# Altium footprint library Vishay Sprague Footprints.PcbLib: 143 footprints (part 9 of 9)
Each footprint in its own frame and in the unit in brackets; x right, y up, seen from the top. Pads: shape width x height; smd on the part's side, far side on the other; paste and mask are expansions set on the pad; w line width, h text height; cw(c..) or ccw(c..) is an arc to the next point about the centre after c.
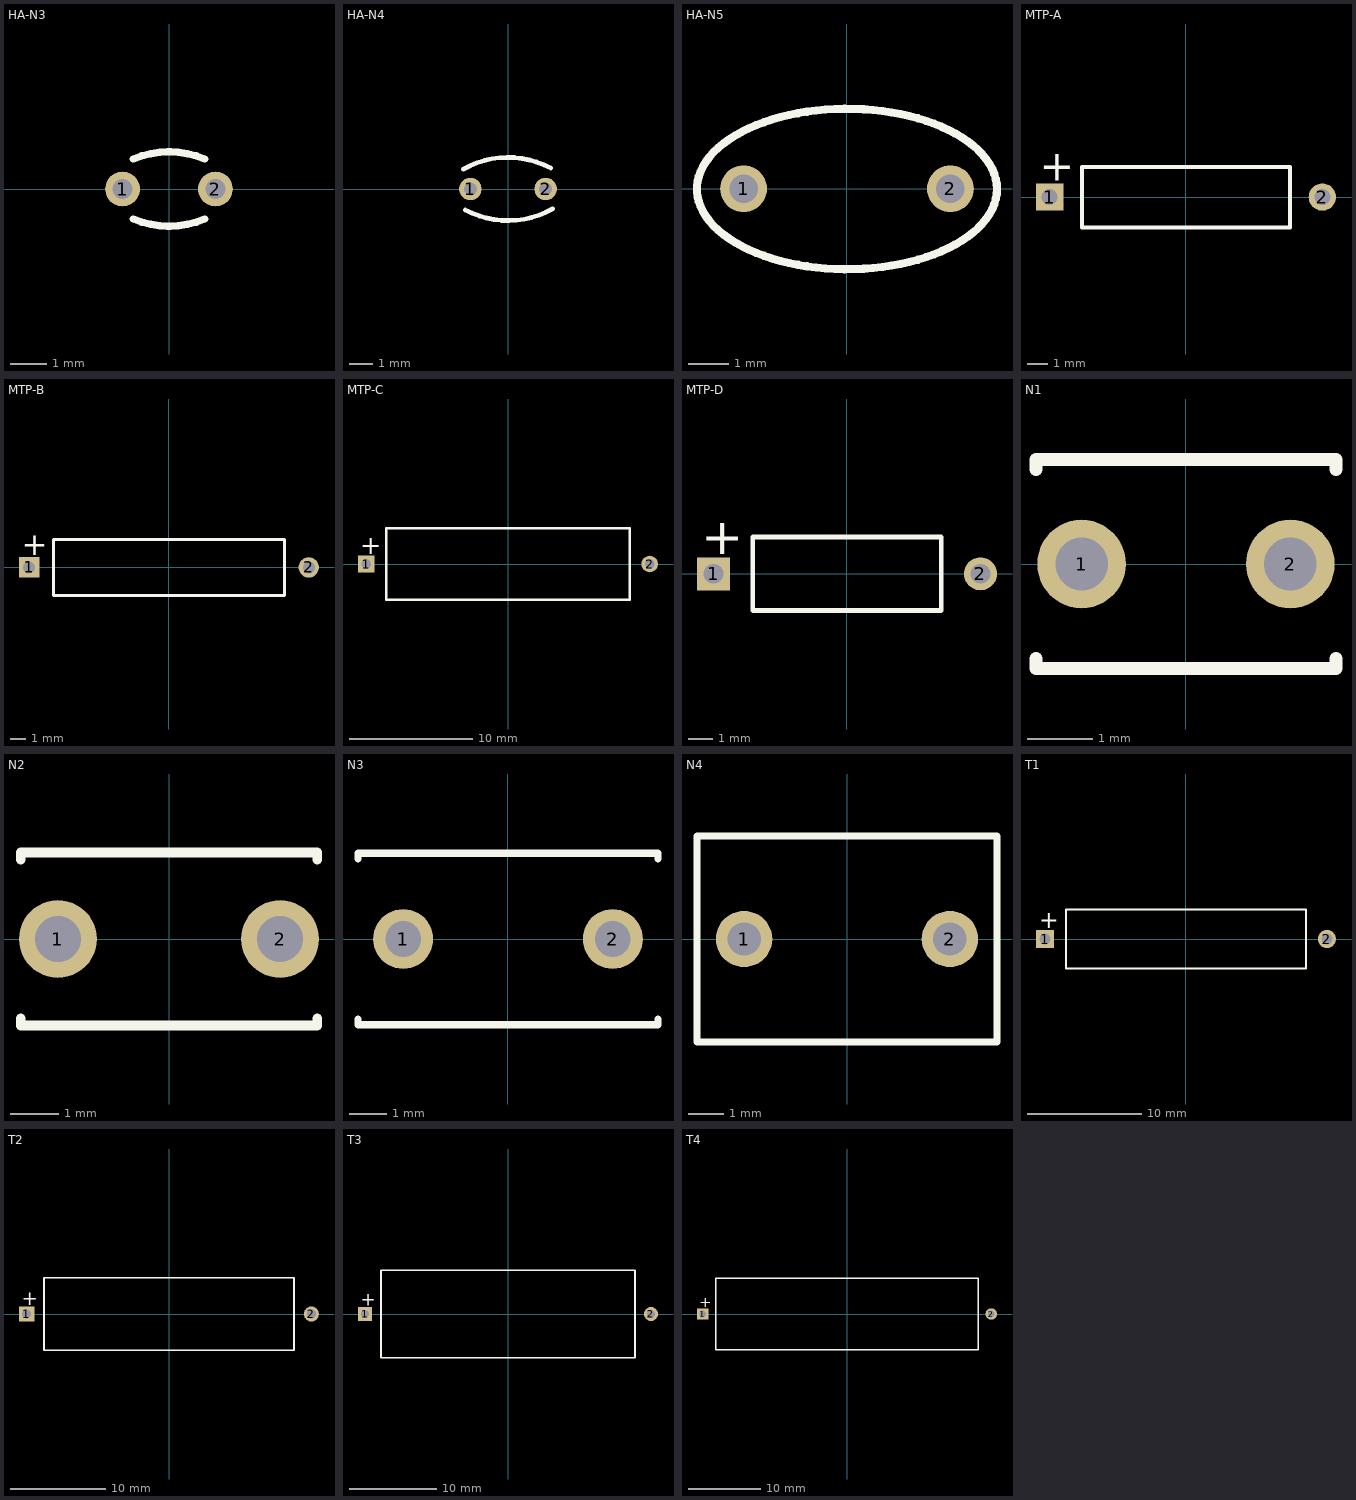
[diagram p8: the footprints below, top view; thin cyan lines are the x and y axes]

## HA-N3 [mm] "Capacitor, Radial, Tantalum, Non-Polarised; Body 3.56 x 2.03 x 5.08 mm (WxTxH max); Pin Spacing 2.54 mm (typ)"
height 5.08
pads (2):
  round 0.95 hole 0.55: 1(-1.27,0) 2(1.27,0)
Top Overlay:
  lines w0.2: -0.979,-0.82 ccw(c0,1.543) 0.979,-0.82 ; -0.979,0.82 cw(c0,-1.543) 0.979,0.82 ; -0.053,-1.015 0.041,-1.015 ; -0.041,1.015 0.053,1.015

## HA-N4 [mm] "Capacitor, Radial, Tantalum, Non-Polarised; Body 4.83 x 2.67 x 5.97 mm (WxTxH max); Pin Spacing 3.18 mm (typ)"
height 5.97
pads (2):
  round 0.95 hole 0.55: 1(-1.59,0) 2(1.59,0)
Top Overlay:
  lines w0.2: -1.888,0.838 cw(c0,-2.5) 1.8,0.886 ; -1.8,-0.886 ccw(c0,2.5) 1.888,-0.838 ; -0.02,-1.335 0.02,-1.335 ; -0.02,1.335 0.02,1.335

## HA-N5 [mm] "Capacitor, Radial, Tantalum, Non-Polarised; Body 7.37 x 3.94 x 6.86 mm (WxTxH max); Pin Spacing 5.08 mm (typ)"
height 6.86
pads (2):
  round 1.15 hole 0.7: 1(-2.54,0) 2(2.54,0)
Top Overlay:
  lines w0.2: -3.684,-0.068 -3.669,-0.193 -3.639,-0.317 -3.595,-0.44 -3.536,-0.561 -3.463,-0.68 -3.377,-0.796 -3.276,-0.909 -3.162,-1.018 -3.036,-1.123 -2.897,-1.224 -2.747,-1.319 -2.586,-1.41 -2.414,-1.495 -2.232,-1.574 -2.042,-1.646 -1.843,-1.712 -1.637,-1.771 -1.424,-1.823 -1.206,-1.868 -0.983,-1.905 -0.755,-1.934 -0.525,-1.956 -0.293,-1.97 -0.059,-1.976 0.175,-1.974 0.408,-1.964 0.639,-1.946 0.868,-1.92 1.094,-1.887 1.314,-1.846 1.53,-1.798 1.74,-1.742 1.942,-1.68 2.137,-1.611 2.323,-1.535 2.5,-1.453 2.666,-1.365 2.822,-1.272 2.967,-1.174 3.099,-1.071 3.219,-0.964 3.327,-0.853 3.42,-0.738 3.5,-0.621 3.566,-0.501 3.618,-0.379 3.655,-0.255 3.677,-0.131 3.684,-0.006 3.677,0.119 3.655,0.244 3.618,0.367 3.566,0.489 3.5,0.609 3.42,0.726 3.327,0.841 3.219,0.952 3.099,1.059 2.967,1.162 2.822,1.26 2.666,1.354 2.5,1.441 2.323,1.523 2.137,1.599 1.942,1.668 1.74,1.731 1.53,1.786 1.314,1.834 1.094,1.875 0.868,1.909 0.639,1.934 0.408,1.952 0.175,1.962 -0.059,1.964 -0.293,1.958 -0.525,1.944 -0.755,1.922 -0.983,1.893 -1.206,1.856 -1.424,1.811 -1.637,1.759 -1.843,1.7 -2.042,1.634 -2.232,1.562 -2.414,1.483 -2.586,1.398 -2.747,1.308 -2.897,1.212 -3.036,1.111 -3.162,1.006 -3.276,0.897 -3.377,0.784 -3.463,0.668 -3.536,0.549 -3.595,0.428 -3.639,0.305 -3.669,0.181 -3.684,0.057 -3.684,-0.068

## MTP-A [mm] "Capacitor, Axial, Polarised; Body 10.2 x 2.9 mm (LxDia. max), Lead Dia. 0.51 mm (typ)"
height 3
pads (2):
  rect 1.35x1.35 hole 0.8: 1(-6.75,0)
  round 1.35 hole 0.8: 2(6.75,0)
Top Overlay:
  lines w0.2: -5.15,-1.5 5.15,-1.5 5.15,1.5 -5.15,1.5 -5.15,-1.5
  text "+" at -7.25,0.8 h1.5

## MTP-B [mm] "Capacitor, Axial, Polarised; Body 15.2 x 3.7 mm (LxDia. max), Lead Dia. 0.51 mm (typ)"
height 3.7
pads (2):
  rect 1.35x1.35 hole 0.8: 1(-9.25,0)
  round 1.35 hole 0.8: 2(9.25,0)
Top Overlay:
  lines w0.2: -7.65,-1.85 -7.65,1.85 7.65,1.85 7.65,-1.85 -7.65,-1.85
  text "+" at -9.75,0.8 h1.5

## MTP-C [mm] "Capacitor, Axial, Polarised; Body 19.8 x 5.7 mm (LxDia. max), Lead Dia. 0.51 mm (typ)"
height 5.8
pads (2):
  rect 1.35x1.35 hole 0.8: 1(-11.5,0)
  round 1.35 hole 0.8: 2(11.5,0)
Top Overlay:
  lines w0.2: -9.9,-2.9 -9.9,2.9 9.9,2.9 9.9,-2.9 -9.9,-2.9
  text "+" at -12,0.8 h1.5

## MTP-D [mm] "Capacitor, Axial, Polarised; Body 7.6 x 2.9 mm (LxDia. max), Lead Dia. 0.51 mm (typ)"
height 3
pads (2):
  rect 1.35x1.35 hole 0.8: 1(-5.45,0)
  round 1.35 hole 0.8: 2(5.45,0)
Top Overlay:
  lines w0.2: -3.85,-1.5 -3.85,1.5 3.85,1.5 3.85,-1.5 -3.85,-1.5
  text "+" at -5.95,0.8 h1.5

## N1 [mm] "Capacitor, Radial, Tantalum, Non-Polarised; Body 4.57 x 3.18 x 5.59 mm (WxTxH max); Pin Spacing 3.18 mm (typ)"
height 5.59
pads (2):
  round 1.35 hole 0.8: 1(-1.59,0) 2(1.59,0)
Top Overlay:
  lines w0.2: -2.285,-1.44 -2.285,-1.59 2.285,-1.59 2.285,-1.44 ; -2.285,1.44 -2.285,1.59 2.285,1.59 2.285,1.44

## N2 [mm] "Capacitor, Radial, Tantalum, Non-Polarised; Body 6.10 x 3.56 x 7.11 mm (WxTxH max); Pin Spacing 4.57 mm (typ)"
height 7.11
pads (2):
  round 1.6 hole 0.95: 1(-2.285,0) 2(2.285,0)
Top Overlay:
  lines w0.2: -3.05,-1.63 -3.05,-1.78 3.05,-1.78 3.05,-1.63 ; -3.05,1.63 -3.05,1.78 3.05,1.78 3.05,1.63

## N3 [mm] "Capacitor, Radial, Tantalum, Non-Polarised; Body 8.00 x 4.57 x 9.40 mm (WxTxH max); Pin Spacing 5.59 mm (typ)"
height 9.4
pads (2):
  round 1.6 hole 0.95: 1(-2.795,0) 2(2.795,0)
Top Overlay:
  lines w0.2: -4,-2.135 -4,-2.285 4,-2.285 4,-2.135 ; -4,2.135 -4,2.285 4,2.285 4,2.135

## N4 [mm] "Capacitor, Radial, Tantalum, Non-Polarised; Body 8.51 x 5.84 x 9.91 mm (WxTxH max); Pin Spacing 5.84 mm (typ)"
height 9.91
pads (2):
  round 1.6 hole 0.95: 1(-2.92,0) 2(2.92,0)
Top Overlay:
  lines w0.2: -4.255,-2.92 4.255,-2.92 4.255,2.92 -4.255,2.92 -4.255,-2.92

## T1 [mm] "Capacitor, Axial, Polarised; Body 12.3 x 5.2 mm (LxDia. max), Lead Dia. 0.64 mm (typ)"
height 5.2
pads (2):
  rect 1.6x1.6 hole 0.95: 1(-12.38,0)
  round 1.6 hole 0.95: 2(12.38,0)
Top Overlay:
  lines w0.2: -10.55,-2.6 -10.55,2.6 10.55,2.6 10.55,-2.6 -10.55,-2.6
  text "+" at -12.88,0.925 h1.5

## T2 [mm] "Capacitor, Axial, Polarised; Body 17.1 x 7.5 mm (LxDia. max), Lead Dia. 0.64 mm (typ)"
height 7.6
pads (2):
  rect 1.6x1.6 hole 0.95: 1(-14.93,0)
  round 1.6 hole 0.95: 2(14.93,0)
Top Overlay:
  lines w0.2: -13.1,-3.8 13.1,-3.8 13.1,3.8 -13.1,3.8 -13.1,-3.8
  text "+" at -15.43,0.925 h1.5

## T3 [mm] "Capacitor, Axial, Polarised; Body 20.2 x 9.9 mm (LxDia. max), Lead Dia. 0.64 mm (typ)"
height 10
pads (2):
  rect 1.6x1.6 hole 0.95: 1(-16.33,0)
  round 1.6 hole 0.95: 2(16.33,0)
Top Overlay:
  lines w0.2: -14.5,-5 14.5,-5 14.5,5 -14.5,5 -14.5,-5
  text "+" at -16.83,0.925 h1.5

## T4 [mm] "Capacitor, Axial, Polarised; Body 27.8 x 9.9 mm (LxDia. max), Lead Dia. 0.64 mm (typ)"
height 10
pads (2):
  rect 1.6x1.6 hole 0.95: 1(-20.08,0)
  round 1.6 hole 0.95: 2(20.08,0)
Top Overlay:
  lines w0.2: -18.25,-5 -18.25,5 18.25,5 18.25,-5 -18.25,-5
  text "+" at -20.58,0.925 h1.5